# Altium footprint library Switch Panel.PcbLib: 2 footprints
Each footprint in its own frame and in the unit in brackets; x right, y up, seen from the top. Pads: shape width x height; smd on the part's side, far side on the other; paste and mask are expansions set on the pad; w line width, h text height; cw(c..) or ccw(c..) is an arc to the next point about the centre after c.
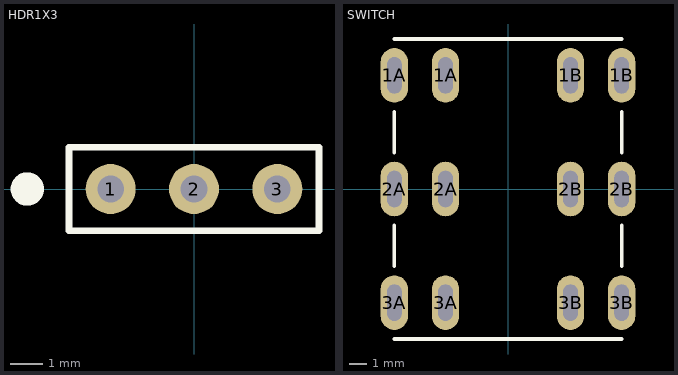
[diagram p0: the footprints below, top view; thin cyan lines are the x and y axes]

## HDR1X3 [mil] "1X3 Header (0.100\" Spacing)"
height 120
pads (3):
  round 60 hole 32: 1(-100,0) 2(0,0) 3(100,0)
Top Overlay:
  circle w20: c-200,0 r10
  lines w8: -150,-50 150,-50 150,50 -150,50 -150,-50
Bottom Overlay:
  circle w20: c-200,0 r10
  lines w8: 140,50 -150,50 ; -150,50 150,50 150,-50 -150,-50 -150,50

## SWITCH [mil] "Universal Switch Footprint"
height 300
pads (12):
  oval 60x120 hole 32 slot 80 at 90 deg: 1A(-250,250) 1A(-137.5,250) 1B(137.5,250) 1B(250,250) 2A(-250,0) 2A(-137.5,0) 2B(137.5,0) 2B(250,0) 3A(-250,-250) 3A(-137.5,-250) 3B(137.5,-250) 3B(250,-250)
Top Overlay:
  lines w8: -250,-330 250,-330 ; -250,-170 -250,-80 ; -250,80 -250,170 ; -250,330 250,330 ; 250,-170 250,-80 ; 250,80 250,170
Bottom Overlay:
  lines w8: -250,-330 250,-330 ; -250,-170 -250,-80 ; -250,80 -250,170 ; -250,330 250,330 ; 250,-170 250,-80 ; 250,80 250,170